# EAGLE library part MCP46X1 (library microchip)
Dual Digital POT 7/8-Bit Volatile with I2C Interface
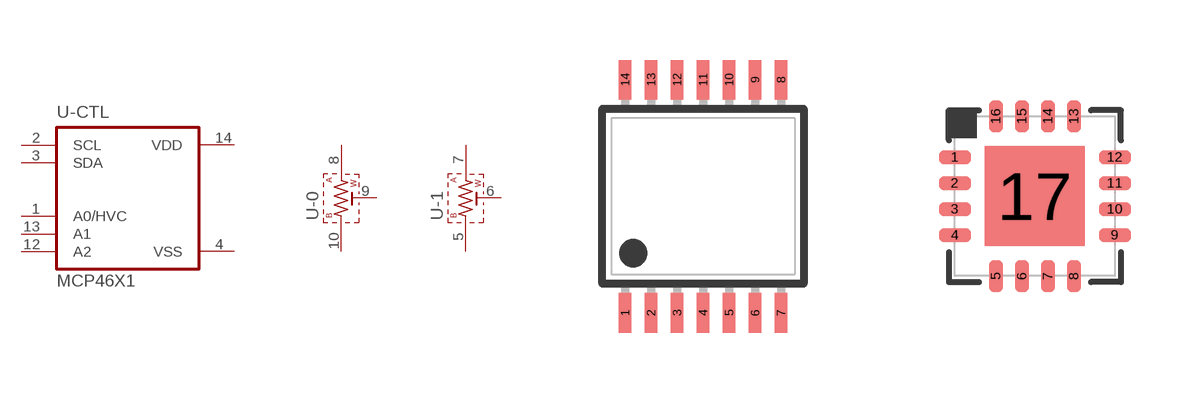
[diagram p145: symbol with the pads of TSSOP14; footprints TSSOP14, QFN16ML]

Designator prefix U; gates -0=DIGIPOT -1=DIGIPOT -CTL=MCP46X1

## MCP46X1TS  [TSSOP14]
1  -CTL:A0/HVC  in
2  -CTL:SCL
3  -CTL:SDA
4  -CTL:VSS  pwr
5  -1:B  pas
6  -1:W  pas
7  -1:A  pas
8  -0:A  pas
9  -0:W  pas
10  -0:B  pas
12  -CTL:A2  in
13  -CTL:A1  in
14  -CTL:VDD  pwr

## MCP46X1ML  [QFN16ML]
1  -CTL:SCL
2  -CTL:SDA
3  -CTL:VSS  pwr
4  -CTL:VSS  pwr
5  -1:B  pas
6  -1:W  pas
7  -1:A  pas
8  -0:A  pas
9  -0:W  pas
10  -0:B  pas
13  -CTL:A2  in
14  -CTL:A1  in
15  -CTL:VDD  pwr
16  -CTL:A0/HVC  in
17  -CTL:VSS  pwr

## Footprint TSSOP14 (pad centres in mm)
Thin Shrink Small Outline Plastic 14
smd 0.305 x 0.991: 1 -1.95,-2.918; 2 -1.3,-2.918; 3 -0.65,-2.918; 4 0,-2.918; 5 0.65,-2.918; 6 1.3,-2.918; 7 1.95,-2.918; 8 1.95,2.918; 9 1.3,2.918; 10 0.65,2.918; 11 0,2.918; 12 -0.65,2.918; 13 -1.3,2.918; 14 -1.95,2.918

## Footprint QFN16ML (pad centres in mm)
QFN 16 body 4x4mm, pitch 0.65mm
smd 0.8 x 0.35: 1 -2,0.975; 2 -2,0.325; 3 -2,-0.325; 4 -2,-0.975; 9 2,-0.975; 10 2,-0.325; 11 2,0.325; 12 2,0.975
smd 0.35 x 0.8: 5 -0.975,-2; 6 -0.325,-2; 7 0.325,-2; 8 0.975,-2; 13 0.975,2; 14 0.325,2; 15 -0.325,2; 16 -0.975,2
smd 2.5 x 2.5: 17 0,0